# Altium integrated library TL494CN.IntLib: 1 symbol
Pins are listed as number, name and electrical type; pins without a type are passive.

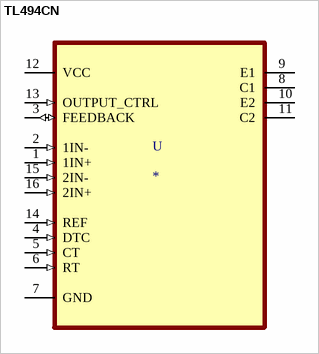
[diagram p0: symbol TL494CN]

## TL494CN
designator U
Buck, Boost, Flyback, Forward Converter, Full-Bridge, Half-Bridge, Push-Pull Regulator Positive Output Step-Up, Step-Down, Step-Up/Step-Down DC-DC Controller IC 16-PDIP; MP: TL494CN; MF: ON Semiconductor; Package: PDIP-16 Rochester Electronics; Price: None; Availability: Unavailable; Value: *; SnapEDA_Link: https://www.snapeda.com/parts/TL494CN/ON%20Semiconductor/view-part/2686076/?ref=snap
footprint DIP254P762X508-16
pins: 1 1IN+ (in), 2 1IN- (in), 3 FEEDBACK (io), 4 DTC (in), 5 CT (in), 6 RT (in), 7 GND, 8 C1, 9 E1, 10 E2, 11 C2, 12 VCC (power), 13 OUTPUT_CTRL (in), 14 REF (in), 15 2IN- (in), 16 2IN+ (in)